# EAGLE library part 691321300020 (library WR-TBL Pluggable Connector)
WR-TBL Serie 321 - 3.81 mm Vertical PCB Header KIND PROPERTIES Pitch 3.81 mm MATERIAL PROPERTIES Insulator Material PA66 Insulator Flammability Rating UL94 V-0 Contact Material Brass Contact Plating Tin GENERAL INFORMATION Operating Temperature -40 up to +105 °C Compliance RoHS ELECTRICAL PROPERTIES IR cULus 10 A IR VDE 10.5 A Working Voltage [cULus] 300 V (AC) Working Voltage [VDE] 300 V (AC) Withstanding Voltage [cULus] 1600 V (AC) Withstanding Voltage [VDE] 2500 V (AC) Contact Resistance [cULus] 20 mΩ Contact Resistance [VDE] 20 mΩ CERTIFICATION cULus Approval E315414 VDE Approval 40023195 <https://www.we-online.com/catalog/media/o33275v209%20Family_WR-TBL_6913213000xx.jpg> Details see: https://www.we-online.com/catalog/en/TBL_3_81_321_VERTICAL_PCB_HEADER_6913213000XX/ Updated by Ella Wu 2019-12-18 2022(C) Wurth Elektronik
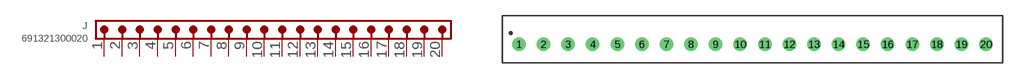
[diagram p74: symbol with the pads of 691321300020; footprint 691321300020]

Designator prefix J

## 691321300020 (DATASHEET-URL: https://www.we-online.com/redexpert/spec/691321300020?ae; IR-UL: 10A; IR-VDE: 10.5A; MOUNT: THT; PART-NUMBER: 691321300020; PINS: 20; PITCH: 3.81mm; TYPE: Vertical; VALUE: 691321300020; WORKING-VOLTAGE-UL: 300V (AC); WORKING-VOLTAGE-VDE: 300V (AC))  [691321300020]
1  1  pas
2  2  pas
3  3  pas
4  4  pas
5  5  pas
6  6  pas
7  7  pas
8  8  pas
9  9  pas
10  10  pas
11  11  pas
12  12  pas
13  13  pas
14  14  pas
15  15  pas
16  16  pas
17  17  pas
18  18  pas
19  19  pas
20  20  pas

## Footprint 691321300020 (pad centres in mm)
WR-TBL Serie 321 - 3.81 mm Vertical PCB Header Max Height = 9.2mm , Pitch 3.81mm , 20pins
drill 1.4: 1 -36.195,0; 2 -32.385,0; 3 -28.575,0; 4 -24.765,0; 5 -20.955,0; 6 -17.145,0; 7 -13.335,0; 8 -9.525,0; 9 -5.715,0; 10 -1.905,0; 11 1.905,0; 12 5.715,0; 13 9.525,0; 14 13.335,0; 15 17.145,0; 16 20.955,0; 17 24.765,0; 18 28.575,0; 19 32.385,0; 20 36.195,0